# Altium schematic symbol library rpi-can-hat.SchLib: 6 symbols
Pins are listed as number, name and electrical type; pins without a type are passive.

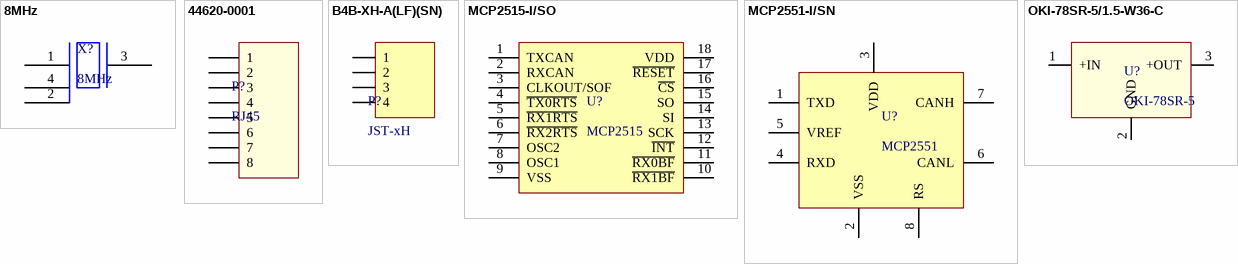
[diagram p0: symbols 8MHz to OKI-78SR-5/1.5-W36-C]

## 8MHz
designator X?
8MHz ±10ppm Crystal 10pF 200 Ohm -10°C ~ 60°C  Surface Mount 4-SMD, No Lead (DFN, LCC); Manufacturer: Abracon; Manufacturer Part Number: ABM3B-8.000MHZ-10-1-U-T; ESR (Equivalent Series Resistance): 200 Ohm; Operating Mode: Fundamental; Stock 1: 0; Category: Crystals and Oscillators; Family: Crystals; Series: ABM3B; Packaging: Tape & Reel (TR); Type: MHz Crystal; Frequency: 8MHz; Frequency Stability: ±10ppm; Frequency Tolerance: ±10ppm; Load Capacitance: 10pF; Operating Temperature: -10°C ~ 60°C; Ratings: -; Mounting Type: Surface Mount; Package / Case: 4-SMD, No Lead (DFN, LCC); Size / Dimension: 0.197" L x 0.126" W (5.00mm x 3.20mm); Height: 0.043" (1.10mm); ComponentLink1URL: https://datasheet.ciiva.com/855/abm3b-855873.pdf; ComponentLink1Description: https://datasheet.ciiva.com/855/abm3b-855873.pdf; ComponentLink2URL: https://datasheet.ciiva.com/855/abm3b-855874.pdf; ComponentLink2Description: https://datasheet.ciiva.com/855/abm3b-855874.pdf; ComponentLink3URL: https://datasheet.ciiva.com/855/abm3b-855875.pdf; ComponentLink3Description: https://datasheet.ciiva.com/855/abm3b-855875.pdf; ComponentLink4URL: https://datasheet.ciiva.com/16378/abm3b-16378027.pdf; ComponentLink4Description: https://datasheet.ciiva.com/16378/abm3b-16378027.pdf; ComponentLink5URL: https://datasheet.ciiva.com/3175/abm3b-3175853.pdf; ComponentLink5Description: https://datasheet.ciiva.com/3175/abm3b-3175853.pdf; Supplier 1: Farnell; Supplier Part Number 1: 2467817RL
footprint DFN-Crystal (DFN, 4-Leads, Body 3.20x5.00mm, Pitch 4.00mm, IPC Medium Density)
pins: 1, 2 GND, 3, 4 GND

## 44620-0001
designator P?, comment RJ45
MODULAR JACK; Manufacturer: Molex; Manufacturer Part Number: 44620-0001; Number of Contacts: 8; Rad Hard: No; Gender: RCP; Pitch: 2.04 mm; Body Orientation: Right Angle; Supplier 1: Farnell; Stock 1: 1202; Pricing 1: 1=0.689, 50=0.675, 100=0.67, 250=0.669, 500=0.668, 1000=0.667 (EUR); Type: RJ-45; Termination Method: Solder; Mounting: Through Hole; Category: Connector Telephone and Telecom; ComponentLink1URL: https://datasheet.ciiva.com/26929/getdatasheetpartid-767379-26929525.pdf; ComponentLink1Description: https://datasheet.ciiva.com/26929/getdatasheetpartid-767379-26929525.pdf; ComponentLink2URL: https://datasheet.ciiva.com/19472/2040276-19472615.pdf; ComponentLink2Description: https://datasheet.ciiva.com/19472/2040276-19472615.pdf; ComponentLink3URL: https://datasheet.ciiva.com/30213/71510446200001-modular-jacks-plug-30213975.pdf; ComponentLink3Description: https://datasheet.ciiva.com/30213/71510446200001-modular-jacks-plug-30213975.pdf; ComponentLink4URL: https://datasheet.ciiva.com/4562/0446200001-modular-jacks-plug-145952-4562632.pdf; ComponentLink4Description: https://datasheet.ciiva.com/4562/0446200001-modular-jacks-plug-145952-4562632.pdf; ComponentLink5URL: https://datasheet.ciiva.com/16074/832720446200001-modular-jacks-plug-16074650.pdf; ComponentLink5Description: https://datasheet.ciiva.com/16074/832720446200001-modular-jacks-plug-16074650.pdf; ComponentLink6URL: https://datasheet.ciiva.com/1107/66995-1107778.pdf; ComponentLink6Description: https://datasheet.ciiva.com/1107/66995-1107778.pdf; ComponentLink7URL: https://datasheet.ciiva.com/9393/0446200001-modular-jacks-plug-9393019.pdf; ComponentLink7Description: https://datasheet.ciiva.com/9393/0446200001-modular-jacks-plug-9393019.pdf; ComponentLink8URL: https://datasheet.ciiva.com/16649/0446200001-modular-jacks-plug-16649582.pdf; ComponentLink8Description: https://datasheet.ciiva.com/16649/0446200001-modular-jacks-plug-16649582.pdf; Supplier Part Number 1: 2782009
footprint EThernet conn
pins: 1, 2, 3, 4, 5, 6, 7, 8

## B4B-XH-A(LF)(SN)
designator P?, comment JST-xH
4 Positions Header, Shrouded Connector 0.098" (2.50mm) Through Hole Tin; Manufacturer: JST; Manufacturer Part Number: B4B-XH-A(LF)(SN); No of Positions: 4; Pitch: 2.5 mm; Style/Orientation: Straight Header/Plug; Voltage Rating: 250 V; Current Rating: 3 A; No of Rows: 1; Gender: Male; Mating Type: Detent Lock; Insulation Resistance: 1000 MΩ; Supplier 1: Farnell; Stock 1: 0; Termination: Crimp; Operating Temp Range: -25 to +85 °C; Contact Material: Brass; Contact Plating: Tin; Material: Polyamide; Type: Shrouded Header; Color: Natural; ComponentLink1URL: https://datasheet.ciiva.com/26894/getdatasheetpartid-455616-26894787.pdf; ComponentLink1Description: https://datasheet.ciiva.com/26894/getdatasheetpartid-455616-26894787.pdf; ComponentLink2URL: https://datasheet.ciiva.com/26924/getdatasheetpartid-640571-26924035.pdf; ComponentLink2Description: https://datasheet.ciiva.com/26924/getdatasheetpartid-640571-26924035.pdf; ComponentLink3URL: https://datasheet.ciiva.com/16203/b4b-xh-alfsn-16203642.pdf; ComponentLink3Description: https://datasheet.ciiva.com/16203/b4b-xh-alfsn-16203642.pdf; ComponentLink4URL: https://datasheet.ciiva.com/726/exh-726404.pdf; ComponentLink4Description: https://datasheet.ciiva.com/726/exh-726404.pdf; Supplier Part Number 1: 1516278
footprint JST-xH
pins: 1, 2, 3, 4

## MCP2515-I/SO
designator U?, comment MCP2515
MICROCHIP         MCP2515-I/SO             CAN Bus, Controller, SPI, 3, 2, 2.7 V, 5.5 V, SOIC; Interface: SPI,CAN; Number of Transmit Buffers: 3; Number of Receive Buffers: 2; Min Supply Voltage: 2.7V; Max Supply Voltage: 5.5V; Data Rate: 1Mbps; Nominal Supply Current: 10mA; Operating Supply Voltage: 5V; Number of Transceivers: 1; Frequency: 40MHz; Supplier 1: Farnell; Manufacturer: Microchip; Manufacturer Part Number: MCP2515-I/SO; Stock 1: 2836; Pricing 1: 1=1.4, 10=1.29, 25=1.17, 100=1.06 (GBP); Mount: Surface Mount; Case/Package: SOIC; Number of Pins: 18; Contact Plating: Tin,Matte; Min Operating Temperature: -40°C; Max Operating Temperature: 85°C; Packaging: Rail/Tube; Max Supply Current: 10mA; Number of Drivers: 1; Number of Receivers: 1; Length: 11.53mm; Height: 2.31mm; Width: 7.49mm; Radiation Hardening: No; Lead Free: Lead Free; REACH SVHC: No SVHC; ComponentLink1URL: https://datasheet.ciiva.com/14152/ea644222-e-14152533.pdf; ComponentLink1Description: https://datasheet.ciiva.com/14152/ea644222-e-14152533.pdf; ComponentLink2URL: https://datasheet.ciiva.com/15150/getdatasheetpartid-446809-15150054.pdf; ComponentLink2Description: https://datasheet.ciiva.com/15150/getdatasheetpartid-446809-15150054.pdf; ComponentLink3URL: https://datasheet.ciiva.com/16205/filehandler-aspxddocname-en011733-16205222.pdf; ComponentLink3Description: https://datasheet.ciiva.com/16205/filehandler-aspxddocname-en011733-16205222.pdf; ComponentLink4URL: https://datasheet.ciiva.com/18405/70045398-18405546.pdf; ComponentLink4Description: https://datasheet.ciiva.com/18405/70045398-18405546.pdf; ComponentLink5URL: https://datasheet.ciiva.com/1495/1669372-1495083.pdf; ComponentLink5Description: https://datasheet.ciiva.com/1495/1669372-1495083.pdf; ComponentLink6URL: https://datasheet.ciiva.com/1695/21801g-1695405.pdf; ComponentLink6Description: https://datasheet.ciiva.com/1695/21801g-1695405.pdf; ComponentLink7URL: https://datasheet.ciiva.com/29305/651448-da-01-en-ic-can-cont-mcp2515-i-so-soic-18-mcp-29305158.pdf; ComponentLink7Description: https://datasheet.ciiva.com/29305/651448-da-01-en-ic-can-cont-mcp2515-i-so-soic-18-mcp-29305158.pdf; Supplier Part Number 1: 1292239
footprint SOIC127P1030X264-18N (SOIC, 18-Leads, Body 11.53x7.49mm, Pitch 1.27mm, IPC Medium Density)
pins: 1 TXCAN (oc), 2 RXCAN (oc), 3 CLKOUT/SOF (oc), 4 ~{TX0RTS} (oc), 5 ~{RX1RTS} (oc), 6 ~{RX2RTS} (oc), 7 OSC2 (oc), 8 OSC1 (oc), 9 VSS (oc), 10 ~{RX1BF} (oc), 11 ~{RX0BF} (oc), 12 ~{INT} (oc), 13 SCK (oc), 14 SI (oc), 15 SO (oc), 16 ~{CS} (oc), 17 ~{RESET} (oc), 18 VDD (oc)

## MCP2551-I/SN
designator U?, comment MCP2551
MICROCHIP         MCP2551-I/SN             CAN Bus, Transceiver, CAN, 1, 1, 4.5 V, 5.5 V, SOIC; Slew Rate: 8.5V/µs; Data Rate: 1Mbps; Max Supply Voltage: 5.5V; Operating Supply Voltage: 5V; Min Supply Voltage: 4.5V; Nominal Supply Current: 75mA; Number of Transmit Buffers: 1; Supplier 1: Farnell; Manufacturer: Microchip; Manufacturer Part Number: MCP2551-I/SN; Stock 1: 28021; Pricing 1: 1=0.79, 10=0.723, 25=0.656, 100=0.602 (GBP); Mount: Surface Mount; Case/Package: SOIC; Number of Pins: 8; Number of Terminals: 8; Contact Plating: Tin,Matte; Min Operating Temperature: -40°C; Max Operating Temperature: 85°C; Packaging: Rail/Tube; Number of Receive Buffers: 1; Package Quantity: 100; Interface: CAN; Number of Transceivers: 1; Max Supply Current: 75mA; Number of Drivers: 1; Number of Receivers: 1; Logic Function: Transceiver; Length: 4.9mm; Height: 1.25mm; Width: 3.9mm; Radiation Hardening: No; REACH SVHC: No SVHC; Lead Free: Lead Free; ComponentLink1URL: https://datasheet.ciiva.com/8084/jp011797-8084592.pdf; ComponentLink1Description: https://datasheet.ciiva.com/8084/jp011797-8084592.pdf; ComponentLink2URL: https://datasheet.ciiva.com/27056/2040583-27056423.pdf; ComponentLink2Description: https://datasheet.ciiva.com/27056/2040583-27056423.pdf; ComponentLink3URL: https://datasheet.ciiva.com/1495/21667f-1495089.pdf; ComponentLink3Description: https://datasheet.ciiva.com/1495/21667f-1495089.pdf; ComponentLink4URL: https://datasheet.ciiva.com/1700/21667f-1700023.pdf; ComponentLink4Description: https://datasheet.ciiva.com/1700/21667f-1700023.pdf; ComponentLink5URL: https://datasheet.ciiva.com/14152/eb644223-644224-e-14152540.pdf; ComponentLink5Description: https://datasheet.ciiva.com/14152/eb644223-644224-e-14152540.pdf; ComponentLink6URL: https://datasheet.ciiva.com/17649/jp011797-17649039.pdf; ComponentLink6Description: https://datasheet.ciiva.com/17649/jp011797-17649039.pdf; Supplier Part Number 1: 9758569
footprint SOIC127P600X175-8N (SOIC, 8-Leads, Body 4.90x3.90mm, Pitch 1.27mm, IPC Medium Density)
pins: 1 TXD (oc), 2 VSS (oc), 3 VDD (oc), 4 RXD (oc), 5 VREF (oc), 6 CANL (oc), 7 CANH (oc), 8 RS (oc)

## OKI-78SR-5/1.5-W36-C
designator U?, comment OKI-78SR-5
Non-Isolated DC/DC Converters 7.5W 24Vin 5Vout1 1.5A SIP Non-Iso; Manufacturer: Murata; Manufacturer Part Number: OKI-78SR-5/1.5-W36-C; Power (Watts) - Manufacture Series: 8W; Number of Outputs: 1; Voltage - Input (Min): 7V; Voltage - Input (Max): 36V; Voltage - Output 1: 5V; Efficiency: 90.5%; Supplier 1: Farnell; Stock 1: 0; Category: Power Supplies - Board Mount; Family: DC DC Converters; Series: Okami™ OKI-78SR; Packaging: Tube; Type: Linear Regulator Replacement; Voltage - Output 2: -; Voltage - Output 3: -; Current - Output (Max): 1.5A; Voltage - Isolation: -; Applications: ITE (Commercial); Features: SCP; Mounting Type: Through Hole; Package / Case: 3-SIP Module; Size / Dimension: 0.41" L x 0.30" W x 0.65" H (10.4mm x 7.6mm x 16.5mm); Operating Temperature: -40°C ~ 85°C; Power (Watts) - Max: 8W; ComponentLink1URL: https://datasheet.ciiva.com/8006/1790439-8006672.pdf; ComponentLink1Description: https://datasheet.ciiva.com/8006/1790439-8006672.pdf; ComponentLink2URL: https://datasheet.ciiva.com/2374/oki-78sr-2374163.pdf; ComponentLink2Description: https://datasheet.ciiva.com/2374/oki-78sr-2374163.pdf; ComponentLink3URL: https://datasheet.ciiva.com/8220/oki-78sr-8220327.pdf; ComponentLink3Description: https://datasheet.ciiva.com/8220/oki-78sr-8220327.pdf; ComponentLink4URL: https://datasheet.ciiva.com/4646/oki-78sr-56393-4646361.pdf; ComponentLink4Description: https://datasheet.ciiva.com/4646/oki-78sr-56393-4646361.pdf; ComponentLink5URL: https://datasheet.ciiva.com/6917/1790439-6917306.pdf; ComponentLink5Description: https://datasheet.ciiva.com/6917/1790439-6917306.pdf; ComponentLink6URL: https://datasheet.ciiva.com/17327/oki-78sr-17327359.pdf; ComponentLink6Description: https://datasheet.ciiva.com/17327/oki-78sr-17327359.pdf; Supplier Part Number 1: 2102101
footprint DC-DC
pins: 1 +IN, 2 GND, 3 +OUT